# Altium footprint library ICs and SemiConductors.PcbLib: 61 footprints (part 1 of 4)
Each footprint in its own frame and in the unit in brackets; x right, y up, seen from the top. Pads: shape width x height; smd on the part's side, far side on the other; paste and mask are expansions set on the pad; w line width, h text height; cw(c..) or ccw(c..) is an arc to the next point about the centre after c.
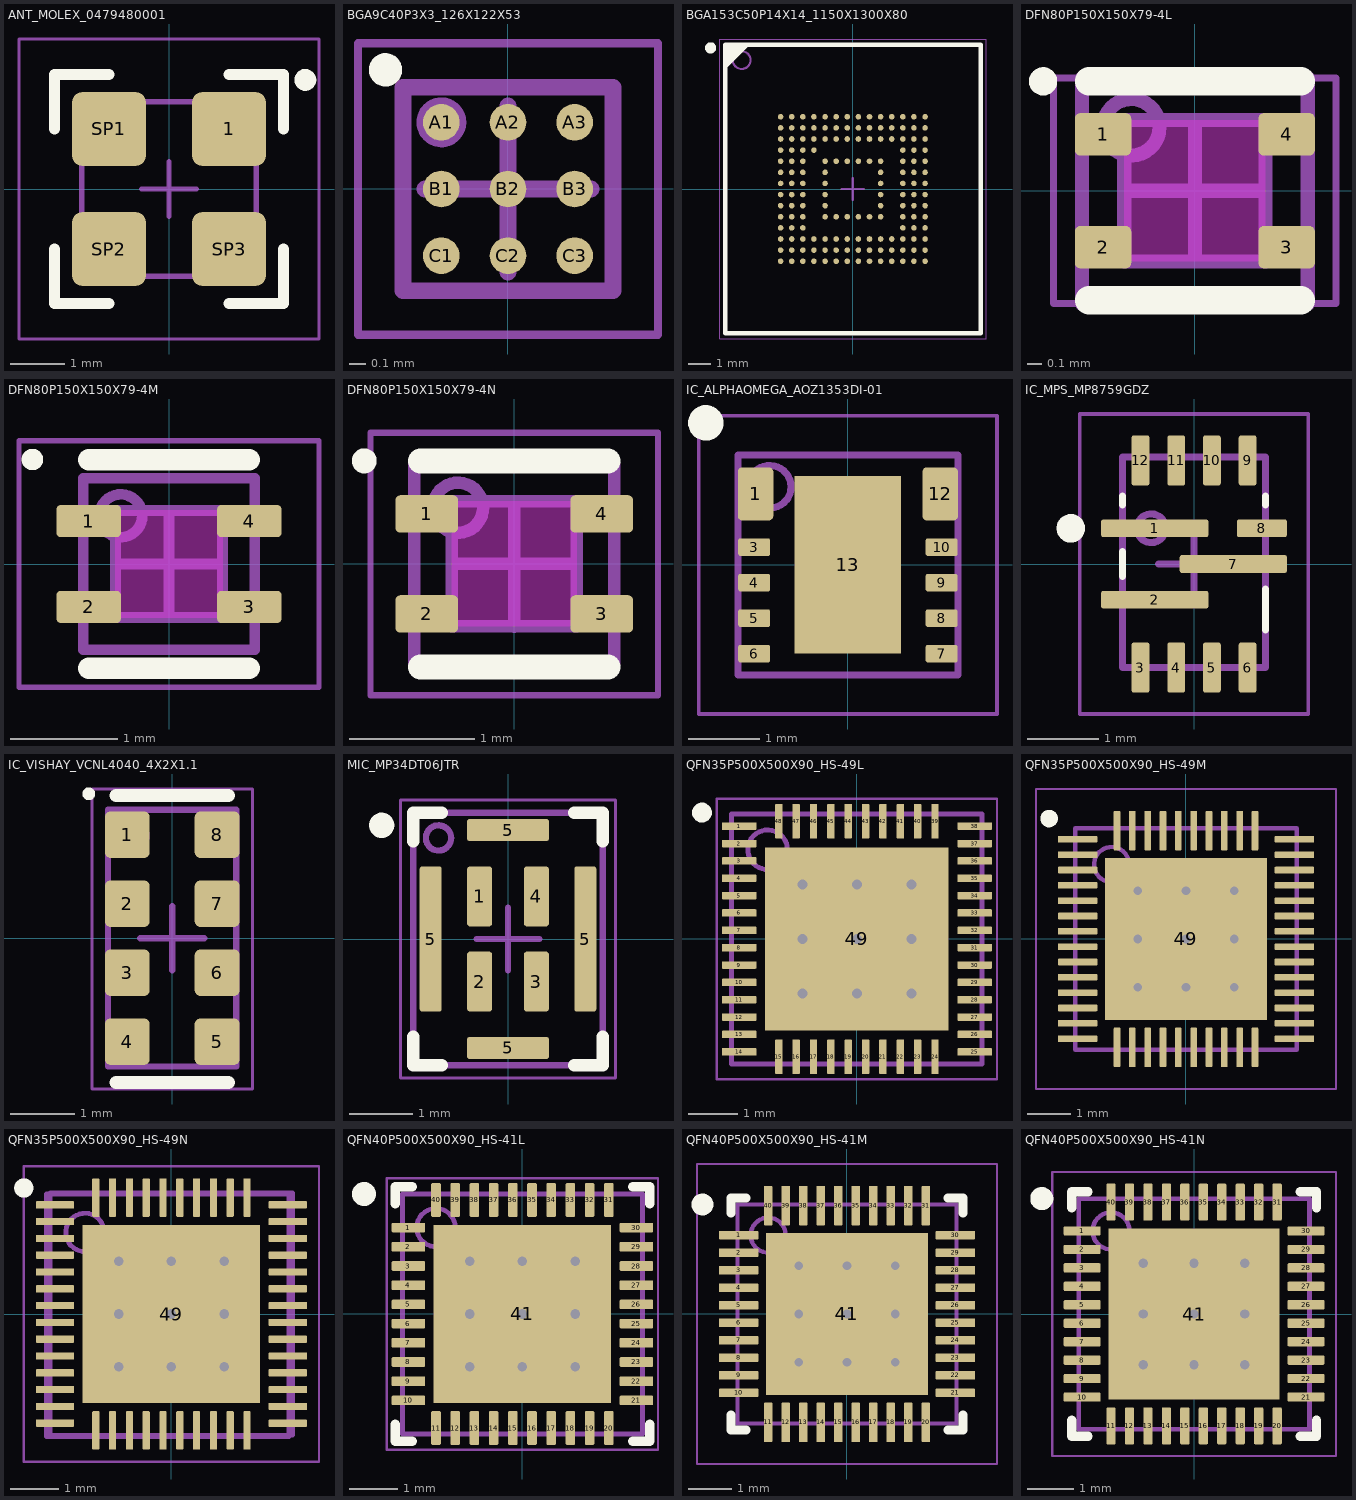
[diagram p0: the footprints below, top view; thin cyan lines are the x and y axes]

## ANT_MOLEX_0479480001 [mm] "Antenna Molex 0479480001"
height 4
pads (4):
  rrect25% 1.35x1.35 smd paste+0 mask+0.05: 1(1.1,1.1) SP1(-1.1,1.1) SP2(-1.1,-1.1) SP3(1.1,-1.1)
Top Overlay:
  circle w0.2: c2.5,2 r0.1
  lines w0.2: -2.1,-1.1 -2.1,-2.1 -1.1,-2.1 ; -2.1,1.1 -2.1,2.1 -1.1,2.1 ; 1.1,-2.1 2.1,-2.1 2.1,-1.1 ; 1.1,2.1 2.1,2.1 2.1,1.1
Top Component Outline:
  lines w0.1: -1.6,-1.6 1.6,-1.6 1.6,1.6 -1.6,1.6 -1.6,-1.6
Top Courtyard:
  lines w0.05: -2.75,-2.75 -2.75,2.75 2.75,2.75 2.75,-2.75 -2.75,-2.75
Top Component Center:
  lines w0.1: -0.5,0 0.5,0 ; 0,-0.5 0,0.5
Top Designator:
  text ".Designator" at -4.04,-0.476 h2
Top Assembly:
  circle w0.1: c1,1 r0.3
  lines w0.1: -1.6,-1.6 1.6,-1.6 1.6,1.6 -1.6,1.6 -1.6,-1.6
  text ".Designator" at -4.04,-0.476 h2
3D body "MOLEX_0479480001.step": height 4, standoff 0, extent -1.57,-1.57 1.57,1.57

## BGA9C40P3X3_126X122X53 [mm] "BGA, 9-Leads, Body 1.26x1.22mmx0.53mm, Pitch 0.40mm"
height 0.53
pads (9):
  round 0.22 smd paste+0 mask+0.05: A1(-0.4,0.4) A2(0,0.4) A3(0.4,0.4) B1(-0.4,0) B2(0,0) B3(0.4,0) C1(-0.4,-0.4) C2(0,-0.4) C3(0.4,-0.4)
Top Overlay:
  circle w0.1: c-0.735,0.715 r0.05
Top Component Outline:
  lines w0.1: -0.63,-0.61 -0.63,0.61 0.63,0.61 0.63,-0.61 -0.63,-0.61
Top Courtyard:
  lines w0.05: -0.9,-0.875 -0.9,0.875 0.9,0.875 0.9,-0.875 -0.9,-0.875
Top Component Center:
  lines w0.1: -0.5,0 0.5,0 ; 0,-0.5 0,0.5
Top Designator:
  text ".Designator" at -4.04,-0.476 h2
Top Assembly:
  circle w0.1: c-0.4,0.4 r0.1
  lines w0.1: -0.63,-0.61 -0.63,0.61 0.63,0.61 0.63,-0.61 -0.63,-0.61
  text ".Designator" at -4.04,-0.476 h2
3D body "BGA9C40P3X3_126X122X53.step": height 0.53, standoff 0, extent -0.63,-0.61 0.63,0.61

## BGA153C50P14X14_1150X1300X80 [mm] "BGA, 153-Leads, Body 11.50x13.00mmx0.80mm, Pitch 0.50mm"
height 0.8
pads (153):
  round 0.25 smd paste+0 mask+0.05: A1(-3.25,3.25) A2(-2.75,3.25) A3(-2.25,3.25) A4(-1.75,3.25) A5(-1.25,3.25) A6(-0.75,3.25) A7(-0.25,3.25) A8(0.25,3.25) A9(0.75,3.25) A10(1.25,3.25) A11(1.75,3.25) A12(2.25,3.25) A13(2.75,3.25) A14(3.25,3.25) B1(-3.25,2.75) B2(-2.75,2.75) B3(-2.25,2.75) B4(-1.75,2.75) B5(-1.25,2.75) B6(-0.75,2.75) B7(-0.25,2.75) B8(0.25,2.75) B9(0.75,2.75) B10(1.25,2.75) B11(1.75,2.75) B12(2.25,2.75) B13(2.75,2.75) B14(3.25,2.75) C1(-3.25,2.25) C2(-2.75,2.25) C3(-2.25,2.25) C4(-1.75,2.25) C5(-1.25,2.25) C6(-0.75,2.25) C7(-0.25,2.25) C8(0.25,2.25) C9(0.75,2.25) C10(1.25,2.25) C11(1.75,2.25) C12(2.25,2.25) C13(2.75,2.25) C14(3.25,2.25) D1(-3.25,1.75) D2(-2.75,1.75) D3(-2.25,1.75) D4(-1.75,1.75) D12(2.25,1.75) D13(2.75,1.75) D14(3.25,1.75) E1(-3.25,1.25) E2(-2.75,1.25) E3(-2.25,1.25) E5(-1.25,1.25) E6(-0.75,1.25) E7(-0.25,1.25) E8(0.25,1.25) E9(0.75,1.25) E10(1.25,1.25) E12(2.25,1.25) E13(2.75,1.25) E14(3.25,1.25) F1(-3.25,0.75) F2(-2.75,0.75) F3(-2.25,0.75) F5(-1.25,0.75) F10(1.25,0.75) F12(2.25,0.75) F13(2.75,0.75) F14(3.25,0.75) G1(-3.25,0.25) G2(-2.75,0.25) G3(-2.25,0.25) G5(-1.25,0.25) G10(1.25,0.25) G12(2.25,0.25) G13(2.75,0.25) G14(3.25,0.25) H1(-3.25,-0.25) H2(-2.75,-0.25) H3(-2.25,-0.25) H5(-1.25,-0.25) H10(1.25,-0.25) H12(2.25,-0.25) H13(2.75,-0.25) H14(3.25,-0.25) J1(-3.25,-0.75) J2(-2.75,-0.75) J3(-2.25,-0.75) J5(-1.25,-0.75) J10(1.25,-0.75) J12(2.25,-0.75) J13(2.75,-0.75) J14(3.25,-0.75) K1(-3.25,-1.25) K2(-2.75,-1.25) K3(-2.25,-1.25) K5(-1.25,-1.25) K6(-0.75,-1.25) K7(-0.25,-1.25) K8(0.25,-1.25) K9(0.75,-1.25) K10(1.25,-1.25) K12(2.25,-1.25) K13(2.75,-1.25) K14(3.25,-1.25) L1(-3.25,-1.75) L2(-2.75,-1.75) L3(-2.25,-1.75) L12(2.25,-1.75) L13(2.75,-1.75) L14(3.25,-1.75) M1(-3.25,-2.25) M2(-2.75,-2.25) M3(-2.25,-2.25) M4(-1.75,-2.25) M5(-1.25,-2.25) M6(-0.75,-2.25) M7(-0.25,-2.25) M8(0.25,-2.25) M9(0.75,-2.25) M10(1.25,-2.25) M11(1.75,-2.25) M12(2.25,-2.25) M13(2.75,-2.25) M14(3.25,-2.25) N1(-3.25,-2.75) N2(-2.75,-2.75) N3(-2.25,-2.75) N4(-1.75,-2.75) N5(-1.25,-2.75) N6(-0.75,-2.75) N7(-0.25,-2.75) N8(0.25,-2.75) N9(0.75,-2.75) N10(1.25,-2.75) N11(1.75,-2.75) N12(2.25,-2.75) N13(2.75,-2.75) N14(3.25,-2.75) P1(-3.25,-3.25) P2(-2.75,-3.25) P3(-2.25,-3.25) P4(-1.75,-3.25) P5(-1.25,-3.25) P6(-0.75,-3.25) P7(-0.25,-3.25) P8(0.25,-3.25) P9(0.75,-3.25) P10(1.25,-3.25) P11(1.75,-3.25) P12(2.25,-3.25) P13(2.75,-3.25) P14(3.25,-3.25)
Top Overlay:
  circle w0.25: c-6.4,6.35 r0.125
  region: -4.75,6.5 -5.75,5.5 -5.75,6.5
  lines w0.2: -5.75,5.5 -4.75,6.5 ; -5.75,-6.5 -5.75,6.5 5.75,6.5 5.75,-6.5 -5.75,-6.5
Top Component Outline:
  lines w0.1: -5.75,-6.5 -5.75,6.5 5.75,6.5 5.75,-6.5 -5.75,-6.5
Top Courtyard:
  lines w0.05: -6,-6.75 -6,6.75 6,6.75 6,-6.75 -6,-6.75
Top Component Center:
  lines w0.1: -0.5,0 0.5,0 ; 0,-0.5 0,0.5
Top Designator:
  text ".Designator" at -4.04,-0.476 h2
Top Assembly:
  circle w0.1: c-5,5.8 r0.4
  lines w0.1: -5.75,-6.5 -5.75,6.5 5.75,6.5 5.75,-6.5 -5.75,-6.5
3D body "BGA153C50P14X14_1150X1300X80.step": height 0.8, standoff 0, extent -5.75,-6.5 5.75,6.5

## DFN80P150X150X79-4L [mm] "DFN, 4-Leads, Body 1.50x1.50mm, Pitch 0.80mm, IPC High Density"
height 0.79
pads (4):
  rrect25% 0.4x0.3 smd paste+0 mask+0.05: 1(-0.65,0.4) 2(-0.65,-0.4) 3(0.65,-0.4) 4(0.65,0.4)
Top Overlay:
  circle w0.1: c-1.075,0.775 r0.05
  lines w0.2: -0.75,-0.775 0.75,-0.775 ; -0.75,0.775 0.75,0.775
Keep-Out Layer:
  region: -0.5,0.5 0.5,0.5 0.5,-0.5 -0.5,-0.5
Top Component Outline:
  lines w0.1: -0.5,-0.5 0.5,-0.5 0.5,0.5 -0.5,0.5 -0.5,-0.5
Top Courtyard:
  lines w0.05: -1,-0.8 1,-0.8 1,0.8 -1,0.8 -1,-0.8
Top Component Center:
  lines w0.1: -0.5,0 0.5,0 ; 0,-0.5 0,0.5
Top Assembly:
  circle w0.1: c-0.45,0.45 r0.2
  lines w0.1: -0.8,-0.8 0.8,-0.8 0.8,0.8 -0.8,0.8 -0.8,-0.8
3D body "SENSIRION_SHT41-AD1B-R3.step": height 0.55, standoff 0.01, extent -0.751,-0.751 0.751,0.751

## DFN80P150X150X79-4M [mm] "DFN, 4-Leads, Body 1.50x1.50mm, Pitch 0.80mm, IPC Low Density"
height 0.79
pads (4):
  rrect25% 0.6x0.3 smd paste+0 mask+0.05: 1(-0.75,0.4) 2(-0.75,-0.4) 3(0.75,-0.4) 4(0.75,0.4)
Top Overlay:
  circle w0.1: c-1.275,0.975 r0.05
  lines w0.2: -0.75,-0.975 0.75,-0.975 ; -0.75,0.975 0.75,0.975
Keep-Out Layer:
  region: -0.5,0.5 0.5,0.5 0.5,-0.5 -0.5,-0.5
Top Component Outline:
  lines w0.1: -0.5,-0.5 -0.5,0.5 0.5,0.5 0.5,-0.5 -0.5,-0.5
Top Courtyard:
  lines w0.05: -1.4,-1.15 1.4,-1.15 1.4,1.15 -1.4,1.15 -1.4,-1.15
Top Component Center:
  lines w0.1: -0.5,0 0.5,0 ; 0,-0.5 0,0.5
Top Assembly:
  circle w0.1: c-0.45,0.45 r0.2
  lines w0.1: -0.8,-0.8 -0.8,0.8 0.8,0.8 0.8,-0.8 -0.8,-0.8
3D body "SENSIRION_SHT41-AD1B-R3.step": height 0.55, standoff 0.01, extent -0.751,-0.751 0.751,0.751

## DFN80P150X150X79-4N [mm] "DFN, 4-Leads, Body 1.50x1.50mm, Pitch 0.80mm, IPC Medium Density"
height 0.79
pads (4):
  rrect25% 0.5x0.3 smd paste+0 mask+0.05: 1(-0.7,0.4) 2(-0.7,-0.4) 3(0.7,-0.4) 4(0.7,0.4)
Top Overlay:
  circle w0.1: c-1.2,0.825 r0.05
  lines w0.2: -0.75,-0.825 0.75,-0.825 ; -0.75,0.825 0.75,0.825
Keep-Out Layer:
  region: -0.5,0.5 0.5,0.5 0.5,-0.5 -0.5,-0.5
Top Component Outline:
  lines w0.1: -0.5,-0.5 -0.5,0.5 0.5,0.5 0.5,-0.5 -0.5,-0.5
Top Courtyard:
  lines w0.05: -1.15,-1.05 -1.15,1.05 1.15,1.05 1.15,-1.05 -1.15,-1.05
Top Component Center:
  lines w0.1: -0.5,0 0.5,0 ; 0,-0.5 0,0.5
Top Assembly:
  circle w0.1: c-0.45,0.45 r0.2
  lines w0.1: -0.8,-0.8 -0.8,0.8 0.8,0.8 0.8,-0.8 -0.8,-0.8
3D body "SENSIRION_SHT41-AD1B-R3.step": height 0.55, standoff 0.01, extent -0.751,-0.751 0.751,0.751

## IC_ALPHAOMEGA_AOZ1353DI-01 [mm] "Power Switch/Driver 1:1 N-Channel 3.5A 12-DFN (3x3)"
height 1
pads (11):
  rrect25% 0.5x0.75 smd paste+0 mask+0.05: 1(-1.3,1) 12(1.3,1)
  rrect25% 0.45x0.25 smd paste+0 mask+0.05: 3(-1.32,0.25) 4(-1.32,-0.25) 5(-1.32,-0.75) 6(-1.32,-1.25) 7(1.32,-1.25) 8(1.32,-0.75) 9(1.32,-0.25) 10(1.32,0.25)
  rect 1.5x2.5 smd paste+0 mask+0.05: 13(0,0)
Top Overlay:
  circle w0.25: c-2,2 r0.125
Top Component Outline:
  lines w0.1: -1.55,-1.55 -1.55,1.55 1.55,1.55 1.55,-1.55 -1.55,-1.55
Top Courtyard:
  lines w0.05: -2.1,-2.1 -2.1,2.1 2.1,2.1 2.1,-2.1 -2.1,-2.1
Top Component Center:
  lines w0.1: -0.5,0 0.5,0 ; 0,-0.5 0,0.5
Top Designator:
  text ".Designator" at -4.04,-0.476 h2
Top Assembly:
  circle w0.1: c-1.1,1.1 r0.3
  lines w0.1: -1.55,-1.55 -1.55,1.55 1.55,1.55 1.55,-1.55 -1.55,-1.55
  text ".Designator" at -4.04,-0.476 h2
3D body "ALPHAOMEGA_AOZ1353DI-01.step": height 1.1, standoff 0, extent -1.5,-1.5 1.5,1.5

## IC_MPS_MP8759GDZ [mm] "Buck Switching Regulator IC Positive Adjustable 0.6V 1 Output 8A 12-PowerVFQFN"
height 1.1
pads (12):
  rrect25% 1.5x0.25 smd paste+0 mask+0.05: 1(-0.55,0.5) 2(-0.55,-0.5) 7(0.55,0)
  rrect25% 0.25x0.7 smd paste+0 mask+0.05: 3(-0.75,-1.45) 4(-0.25,-1.45) 5(0.25,-1.45) 6(0.75,-1.45) 9(0.75,1.45) 10(0.25,1.45) 11(-0.25,1.45) 12(-0.75,1.45)
  rrect25% 0.7x0.25 smd paste+0 mask+0.05: 8(0.95,0.5)
Top Overlay:
  circle w0.2: c-1.725,0.5 r0.1
  lines w0.1: -1,-0.175 -1,0.175 ; -1,0.825 -1,0.95 ; 1,-0.925 1,-0.35 ; 1,0.825 1,0.95
Top Component Outline:
  lines w0.1: -1,-1.45 -1,1.5 1,1.5 1,-1.45 -1,-1.45
Top Courtyard:
  lines w0.05: -1.6,-2.1 -1.6,2.1 1.6,2.1 1.6,-2.1 -1.6,-2.1
Top Component Center:
  lines w0.1: -0.5,0 0.5,0 ; 0,-0.5 0,0.5
Top Designator:
  text ".Designator" at -4.04,-0.476 h2
Top Assembly:
  circle w0.1: c-0.6,0.5 r0.2
  lines w0.1: -1,-1.45 -1,1.5 1,1.5 1,-1.45 -1,-1.45
  text ".Designator" at -4.04,-0.476 h2
3D body "MPS_MP8759GD-Z.step": height 1.1, standoff 0, extent -1,-1.45 1,1.5

## IC_VISHAY_VCNL4040_4X2X1.1 [mm] "Light/Proximity Sensor Vishay VCNL4040"
height 1.163
pads (8):
  rrect25% 0.7x0.725 smd paste+0 mask+0.05: 1(-0.7,1.613) 2(-0.7,0.537) 3(-0.7,-0.537) 4(-0.7,-1.613) 5(0.7,-1.613) 6(0.7,-0.537) 7(0.7,0.537) 8(0.7,1.613)
Top Overlay:
  circle w0.1: c-1.3,2.25 r0.05
  lines w0.2: -0.875,-2.25 0.875,-2.25 ; -0.875,2.225 0.875,2.225
Top Component Outline:
  lines w0.1: -1,-2 1,-2 1,2 -1,2 -1,-2
Top Courtyard:
  lines w0.05: -1.25,-2.35 1.25,-2.35 1.25,2.325 -1.25,2.325 -1.25,-2.35
Top Component Center:
  lines w0.1: -0.5,0 0.5,0 ; 0,-0.5 0,0.5
Top Designator:
  text ".Designator" at -4.04,-0.476 h2
Top Assembly:
  circle w0.1: c-0.6,1.6 r0.2
  lines w0.1: -1,-2 1,-2 1,2 -1,2 -1,-2
  text ".Designator" at -4.04,-0.476 h2
3D body "VISHAY_84352VCNL4040.step": height 1.15, standoff 0, extent -1,-2 1,2

## MIC_MP34DT06JTR [mm] "MEMS audio sensor omnidirectional digital microphone"
height 1
pads (8):
  rrect25% 0.4x0.95 smd paste+0 mask+0.05: 1(-0.45,0.675) 2(-0.45,-0.675) 3(0.45,-0.675) 4(0.45,0.675)
  rrect25% 0.35x2.3 smd paste+0 mask+0.05: 5(-1.225,0) 5(1.225,0)
  rrect25% 1.3x0.35 smd paste+0 mask+0.05: 5(0,-1.725) 5(0,1.725)
Top Overlay:
  circle w0.2: c-2,1.8 r0.1
  lines w0.2: -1.5,-1.55 -1.5,-2 -1.05,-2 ; -1.5,1.55 -1.5,2 -1.05,2 ; 1.05,-2 1.5,-2 1.5,-1.55 ; 1.05,2 1.5,2 1.5,1.55
Top Component Outline:
  lines w0.1: -1.5,-2 1.5,-2 1.5,2 -1.5,2 -1.5,-2
Top Courtyard:
  lines w0.05: -1.7,-2.2 -1.7,2.2 1.7,2.2 1.7,-2.2 -1.7,-2.2
Top Component Center:
  lines w0.1: -0.5,0 0.5,0 ; 0,-0.5 0,0.5
Top Designator:
  text ".Designator" at -4.04,-0.476 h2
Top Assembly:
  circle w0.1: c-1.1,1.6 r0.2
  lines w0.1: -1.5,-2 1.5,-2 1.5,2 -1.5,2 -1.5,-2
  text ".Designator" at -4.04,-0.476 h2
3D body "MIC_MP34DT06J.step": height 1, standoff -0.01, extent -1.5,-2 1.5,2

## QFN35P500X500X90_HS-49L [mm] "QFN, 48-Leads, Body 5.00x5.00mm, Pitch 0.35mm, Thermal Pad 3.70x3.70mm, IPC High Density"
height 0.9
pads (49):
  rrect25% 0.7x0.15 smd paste+0 mask+0.05: 1(-2.375,2.275) 2(-2.375,1.925) 3(-2.375,1.575) 4(-2.375,1.225) 5(-2.375,0.875) 6(-2.375,0.525) 7(-2.375,0.175) 8(-2.375,-0.175) 9(-2.375,-0.525) 10(-2.375,-0.875) 11(-2.375,-1.225) 12(-2.375,-1.575) 13(-2.375,-1.925) 14(-2.375,-2.275) 25(2.375,-2.275) 26(2.375,-1.925) 27(2.375,-1.575) 28(2.375,-1.225) 29(2.375,-0.875) 30(2.375,-0.525) 31(2.375,-0.175) 32(2.375,0.175) 33(2.375,0.525) 34(2.375,0.875) 35(2.375,1.225) 36(2.375,1.575) 37(2.375,1.925) 38(2.375,2.275)
  rrect25% 0.15x0.7 smd paste+0 mask+0.05: 15(-1.575,-2.375) 16(-1.225,-2.375) 17(-0.875,-2.375) 18(-0.525,-2.375) 19(-0.175,-2.375) 20(0.175,-2.375) 21(0.525,-2.375) 22(0.875,-2.375) 23(1.225,-2.375) 24(1.575,-2.375) 39(1.575,2.375) 40(1.225,2.375) 41(0.875,2.375) 42(0.525,2.375) 43(0.175,2.375) 44(-0.175,2.375) 45(-0.525,2.375) 46(-0.875,2.375) 47(-1.225,2.375) 48(-1.575,2.375)
  rect 3.7x3.7 smd paste+0 mask+0.05: 49(0,0)
via 1.1,-1.1 diameter 0.5 hole 0.2
via 0,-1.1 diameter 0.5 hole 0.2
via -1.1,-1.1 diameter 0.5 hole 0.2
via 1.1,0 diameter 0.5 hole 0.2
via 0,0 diameter 0.5 hole 0.2
via -1.1,0 diameter 0.5 hole 0.2
via 1.1,1.1 diameter 0.5 hole 0.2
via 0,1.1 diameter 0.5 hole 0.2
via -1.1,1.1 diameter 0.5 hole 0.2
Top Overlay:
  circle w0.2: c-3.125,2.55 r0.1
Top Component Outline:
  lines w0.1: -2.528,-2.525 -2.528,2.525 2.522,2.525 2.522,-2.525 -2.528,-2.525
Top Courtyard:
  lines w0.05: -2.825,-2.825 2.825,-2.825 2.825,2.825 -2.825,2.825 -2.825,-2.825
Top Component Center:
  lines w0.1: -0.5,0 0.5,0 ; 0,-0.5 0,0.5
Top Designator:
  text ".Designator" at -4.04,-0.476 h2
Top Assembly:
  circle w0.1: c-1.8,1.8 r0.4
  lines w0.1: -2.525,-2.525 2.525,-2.525 2.525,2.525 -2.525,2.525 -2.525,-2.525
  text ".Designator" at -4.04,-0.476 h2
3D body "QFN35P500X500X90_HS-49N.step": height 0.9, standoff 0, extent -2.526,-2.526 2.526,2.526

## QFN35P500X500X90_HS-49M [mm] "QFN, 48-Leads, Body 5.00x5.00mm, Pitch 0.35mm, Thermal Pad 3.70x3.70mm, IPC Low Density"
height 0.9
pads (49):
  rrect25% 0.9x0.15 smd paste+0 mask+0.05: 1(-2.475,2.275) 2(-2.475,1.925) 3(-2.475,1.575) 4(-2.475,1.225) 5(-2.475,0.875) 6(-2.475,0.525) 7(-2.475,0.175) 8(-2.475,-0.175) 9(-2.475,-0.525) 10(-2.475,-0.875) 11(-2.475,-1.225) 12(-2.475,-1.575) 13(-2.475,-1.925) 14(-2.475,-2.275) 25(2.475,-2.275) 26(2.475,-1.925) 27(2.475,-1.575) 28(2.475,-1.225) 29(2.475,-0.875) 30(2.475,-0.525) 31(2.475,-0.175) 32(2.475,0.175) 33(2.475,0.525) 34(2.475,0.875) 35(2.475,1.225) 36(2.475,1.575) 37(2.475,1.925) 38(2.475,2.275)
  rrect25% 0.15x0.9 smd paste+0 mask+0.05: 15(-1.575,-2.475) 16(-1.225,-2.475) 17(-0.875,-2.475) 18(-0.525,-2.475) 19(-0.175,-2.475) 20(0.175,-2.475) 21(0.525,-2.475) 22(0.875,-2.475) 23(1.225,-2.475) 24(1.575,-2.475) 39(1.575,2.475) 40(1.225,2.475) 41(0.875,2.475) 42(0.525,2.475) 43(0.175,2.475) 44(-0.175,2.475) 45(-0.525,2.475) 46(-0.875,2.475) 47(-1.225,2.475) 48(-1.575,2.475)
  rect 3.7x3.7 smd paste+0 mask+0.05: 49(0,0)
via -1.1,1.1 diameter 0.5 hole 0.2
via 0,1.1 diameter 0.5 hole 0.2
via 1.1,1.1 diameter 0.5 hole 0.2
via -1.1,0 diameter 0.5 hole 0.2
via 0,0 diameter 0.5 hole 0.2
via 1.1,0 diameter 0.5 hole 0.2
via -1.1,-1.1 diameter 0.5 hole 0.2
via 0,-1.1 diameter 0.5 hole 0.2
via 1.1,-1.1 diameter 0.5 hole 0.2
Top Overlay:
  circle w0.2: c-3.125,2.75 r0.1
Top Component Outline:
  lines w0.1: -2.525,-2.525 2.525,-2.525 2.525,2.525 -2.525,2.525 -2.525,-2.525
Top Courtyard:
  lines w0.05: -3.425,-3.425 -3.425,3.425 3.425,3.425 3.425,-3.425 -3.425,-3.425
Top Component Center:
  lines w0.1: -0.5,0 0.5,0 ; 0,-0.5 0,0.5
Top Designator:
  text ".Designator" at -4.04,-0.476 h2
Top Assembly:
  circle w0.1: c-1.7,1.7 r0.4
  lines w0.1: -2.525,-2.525 -2.525,2.525 2.525,2.525 2.525,-2.525 -2.525,-2.525
  text ".Designator" at -4.04,-0.476 h2
3D body "QFN35P500X500X90_HS-49N.step": height 0.9, standoff 0, extent -2.526,-2.526 2.526,2.526

## QFN35P500X500X90_HS-49N [mm] "QFN, 48-Leads, Body 5.00x5.00mm, Pitch 0.35mm, Thermal Pad 3.70x3.70mm, IPC Medium Density"
height 0.9
pads (49):
  rrect25% 0.8x0.15 smd paste+0 mask+0.05: 1(-2.425,2.275) 2(-2.425,1.925) 3(-2.425,1.575) 4(-2.425,1.225) 5(-2.425,0.875) 6(-2.425,0.525) 7(-2.425,0.175) 8(-2.425,-0.175) 9(-2.425,-0.525) 10(-2.425,-0.875) 11(-2.425,-1.225) 12(-2.425,-1.575) 13(-2.425,-1.925) 14(-2.425,-2.275) 25(2.425,-2.275) 26(2.425,-1.925) 27(2.425,-1.575) 28(2.425,-1.225) 29(2.425,-0.875) 30(2.425,-0.525) 31(2.425,-0.175) 32(2.425,0.175) 33(2.425,0.525) 34(2.425,0.875) 35(2.425,1.225) 36(2.425,1.575) 37(2.425,1.925) 38(2.425,2.275)
  rrect25% 0.15x0.8 smd paste+0 mask+0.05: 15(-1.575,-2.425) 16(-1.225,-2.425) 17(-0.875,-2.425) 18(-0.525,-2.425) 19(-0.175,-2.425) 20(0.175,-2.425) 21(0.525,-2.425) 22(0.875,-2.425) 23(1.225,-2.425) 24(1.575,-2.425) 39(1.575,2.425) 40(1.225,2.425) 41(0.875,2.425) 42(0.525,2.425) 43(0.175,2.425) 44(-0.175,2.425) 45(-0.525,2.425) 46(-0.875,2.425) 47(-1.225,2.425) 48(-1.575,2.425)
  rect 3.7x3.7 smd paste+0 mask+0.05: 49(0,0)
via -1.1,1.1 diameter 0.5 hole 0.2
via 0,1.1 diameter 0.5 hole 0.2
via 1.1,1.1 diameter 0.5 hole 0.2
via -1.1,0 diameter 0.5 hole 0.2
via 0,0 diameter 0.5 hole 0.2
via 1.1,0 diameter 0.5 hole 0.2
via -1.1,-1.1 diameter 0.5 hole 0.2
via 0,-1.1 diameter 0.5 hole 0.2
via 1.1,-1.1 diameter 0.5 hole 0.2
Top Overlay:
  circle w0.2: c-3.075,2.625 r0.1
Top Component Outline:
  lines w0.1: -2.525,-2.525 -2.525,2.525 2.525,2.525 2.525,-2.525 -2.525,-2.525
Top Courtyard:
  lines w0.05: -3.075,-3.075 -3.075,3.075 3.075,3.075 3.075,-3.075 -3.075,-3.075
Top Component Center:
  lines w0.1: -0.5,0 0.5,0 ; 0,-0.5 0,0.5
Top Designator:
  text ".Designator" at -4.04,-0.476 h2
Top Assembly:
  circle w0.1: c-1.8,1.7 r0.4
  lines w0.1: -2.6,-2.55 2.45,-2.55 2.45,2.5 -2.6,2.5 -2.6,-2.55
  text ".Designator" at -4.04,-0.476 h2
3D body "QFN35P500X500X90_HS-49N.step": height 0.9, standoff 0, extent -2.526,-2.526 2.526,2.526

## QFN40P500X500X90_HS-41L [mm] "QFN, 40-Leads, Body 5.00x5.00mm, Pitch 0.40mm, Thermal Pad 3.70x3.70mm, IPC High Density"
height 0.9
pads (41):
  rrect25% 0.7x0.2 smd paste+0 mask+0.05: 1(-2.375,1.8) 2(-2.375,1.4) 3(-2.375,1) 4(-2.375,0.6) 5(-2.375,0.2) 6(-2.375,-0.2) 7(-2.375,-0.6) 8(-2.375,-1) 9(-2.375,-1.4) 10(-2.375,-1.8) 21(2.375,-1.8) 22(2.375,-1.4) 23(2.375,-1) 24(2.375,-0.6) 25(2.375,-0.2) 26(2.375,0.2) 27(2.375,0.6) 28(2.375,1) 29(2.375,1.4) 30(2.375,1.8)
  rrect25% 0.2x0.7 smd paste+0 mask+0.05: 11(-1.8,-2.375) 12(-1.4,-2.375) 13(-1,-2.375) 14(-0.6,-2.375) 15(-0.2,-2.375) 16(0.2,-2.375) 17(0.6,-2.375) 18(1,-2.375) 19(1.4,-2.375) 20(1.8,-2.375) 31(1.8,2.375) 32(1.4,2.375) 33(1,2.375) 34(0.6,2.375) 35(0.2,2.375) 36(-0.2,2.375) 37(-0.6,2.375) 38(-1,2.375) 39(-1.4,2.375) 40(-1.8,2.375)
  rect 3.7x3.7 smd paste+0 mask+0.05: 41(0,0)
via -1.1,1.1 diameter 0.5 hole 0.2
via 0,1.1 diameter 0.5 hole 0.2
via 1.1,1.1 diameter 0.5 hole 0.2
via -1.1,0 diameter 0.5 hole 0.2
via 0,0 diameter 0.5 hole 0.2
via 1.1,0 diameter 0.5 hole 0.2
via -1.1,-1.1 diameter 0.5 hole 0.2
via 0,-1.1 diameter 0.5 hole 0.2
via 1.1,-1.1 diameter 0.5 hole 0.2
Top Overlay:
  circle w0.25: c-3.3,2.5 r0.125
  lines w0.2: -2.65,-2.3 -2.65,-2.65 -2.3,-2.65 ; -2.65,2.3 -2.65,2.65 -2.3,2.65 ; 2.3,-2.65 2.65,-2.65 2.65,-2.3 ; 2.3,2.65 2.65,2.65 2.65,2.3
Top Component Outline:
  lines w0.1: -2.5,-2.5 -2.5,2.5 2.5,2.5 2.5,-2.5 -2.5,-2.5
Top Courtyard:
  lines w0.05: -2.825,-2.825 -2.825,2.825 2.825,2.825 2.825,-2.825 -2.825,-2.825
Top Component Center:
  lines w0.1: -0.5,0 0.5,0 ; 0,-0.5 0,0.5
Top Designator:
  text ".Designator" at -4.04,-0.476 h2
Top Assembly:
  circle w0.1: c-1.8,1.8 r0.4
  lines w0.1: -2.5,-2.5 -2.5,2.5 2.5,2.5 2.5,-2.5 -2.5,-2.5
  text ".Designator" at -4.04,-0.476 h2
3D body "QFN40P500X500X90_HS-41N.step": height 0.9, standoff 0, extent -2.501,-2.501 2.501,2.501

## QFN40P500X500X90_HS-41M [mm] "QFN, 40-Leads, Body 5.00x5.00mm, Pitch 0.40mm, Thermal Pad 3.70x3.70mm, IPC Low Density"
height 0.9
pads (41):
  rrect25% 0.9x0.2 smd paste+0 mask+0.05: 1(-2.475,1.8) 2(-2.475,1.4) 3(-2.475,1) 4(-2.475,0.6) 5(-2.475,0.2) 6(-2.475,-0.2) 7(-2.475,-0.6) 8(-2.475,-1) 9(-2.475,-1.4) 10(-2.475,-1.8) 21(2.475,-1.8) 22(2.475,-1.4) 23(2.475,-1) 24(2.475,-0.6) 25(2.475,-0.2) 26(2.475,0.2) 27(2.475,0.6) 28(2.475,1) 29(2.475,1.4) 30(2.475,1.8)
  rrect25% 0.2x0.9 smd paste+0 mask+0.05: 11(-1.8,-2.475) 12(-1.4,-2.475) 13(-1,-2.475) 14(-0.6,-2.475) 15(-0.2,-2.475) 16(0.2,-2.475) 17(0.6,-2.475) 18(1,-2.475) 19(1.4,-2.475) 20(1.8,-2.475) 31(1.8,2.475) 32(1.4,2.475) 33(1,2.475) 34(0.6,2.475) 35(0.2,2.475) 36(-0.2,2.475) 37(-0.6,2.475) 38(-1,2.475) 39(-1.4,2.475) 40(-1.8,2.475)
  rect 3.7x3.7 smd paste+0 mask+0.05: 41(0,0)
via 1.1,-1.1 diameter 0.5 hole 0.2
via 0,-1.1 diameter 0.5 hole 0.2
via -1.1,-1.1 diameter 0.5 hole 0.2
via 1.1,0 diameter 0.5 hole 0.2
via 0,0 diameter 0.5 hole 0.2
via -1.1,0 diameter 0.5 hole 0.2
via 1.1,1.1 diameter 0.5 hole 0.2
via 0,1.1 diameter 0.5 hole 0.2
via -1.1,1.1 diameter 0.5 hole 0.2
Top Overlay:
  circle w0.25: c-3.3,2.5 r0.125
  lines w0.2: -2.65,-2.3 -2.65,-2.65 -2.3,-2.65 ; -2.65,2.3 -2.65,2.65 -2.3,2.65 ; 2.3,-2.65 2.65,-2.65 2.65,-2.3 ; 2.3,2.65 2.65,2.65 2.65,2.3
Top Component Outline:
  lines w0.1: -2.5,-2.5 -2.5,2.5 2.5,2.5 2.5,-2.5 -2.5,-2.5
Top Courtyard:
  lines w0.05: -3.425,-3.425 3.425,-3.425 3.425,3.425 -3.425,3.425 -3.425,-3.425
Top Component Center:
  lines w0.1: -0.5,0 0.5,0 ; 0,-0.5 0,0.5
Top Designator:
  text ".Designator" at -4.04,-0.476 h2
Top Assembly:
  circle w0.1: c-1.8,1.8 r0.4
  lines w0.1: -2.5,-2.5 2.5,-2.5 2.5,2.5 -2.5,2.5 -2.5,-2.5
  text ".Designator" at -4.04,-0.476 h2
3D body "QFN40P500X500X90_HS-41N.step": height 0.9, standoff 0, extent -2.501,-2.501 2.501,2.501

## QFN40P500X500X90_HS-41N [mm] "QFN, 40-Leads, Body 5.00x5.00mm, Pitch 0.40mm, Thermal Pad 3.70x3.70mm, IPC Medium Density"
height 0.9
pads (41):
  rrect25% 0.8x0.2 smd paste+0 mask+0.05: 1(-2.425,1.8) 2(-2.425,1.4) 3(-2.425,1) 4(-2.425,0.6) 5(-2.425,0.2) 6(-2.425,-0.2) 7(-2.425,-0.6) 8(-2.425,-1) 9(-2.425,-1.4) 10(-2.425,-1.8) 21(2.425,-1.8) 22(2.425,-1.4) 23(2.425,-1) 24(2.425,-0.6) 25(2.425,-0.2) 26(2.425,0.2) 27(2.425,0.6) 28(2.425,1) 29(2.425,1.4) 30(2.425,1.8)
  rrect25% 0.2x0.8 smd paste+0 mask+0.05: 11(-1.8,-2.425) 12(-1.4,-2.425) 13(-1,-2.425) 14(-0.6,-2.425) 15(-0.2,-2.425) 16(0.2,-2.425) 17(0.6,-2.425) 18(1,-2.425) 19(1.4,-2.425) 20(1.8,-2.425) 31(1.8,2.425) 32(1.4,2.425) 33(1,2.425) 34(0.6,2.425) 35(0.2,2.425) 36(-0.2,2.425) 37(-0.6,2.425) 38(-1,2.425) 39(-1.4,2.425) 40(-1.8,2.425)
  rect 3.7x3.7 smd paste+0 mask+0.05: 41(0,0)
via -1.1,1.1 diameter 0.5 hole 0.2
via 0,1.1 diameter 0.5 hole 0.2
via 1.1,1.1 diameter 0.5 hole 0.2
via -1.1,0 diameter 0.5 hole 0.2
via 0,0 diameter 0.5 hole 0.2
via 1.1,0 diameter 0.5 hole 0.2
via -1.1,-1.1 diameter 0.5 hole 0.2
via 0,-1.1 diameter 0.5 hole 0.2
via 1.1,-1.1 diameter 0.5 hole 0.2
Top Overlay:
  circle w0.25: c-3.3,2.5 r0.125
  lines w0.2: -2.65,-2.3 -2.65,-2.65 -2.3,-2.65 ; -2.65,2.3 -2.65,2.65 -2.3,2.65 ; 2.3,-2.65 2.65,-2.65 2.65,-2.3 ; 2.3,2.65 2.65,2.65 2.65,2.3
Top Component Outline:
  lines w0.1: -2.5,-2.5 -2.5,2.5 2.5,2.5 2.5,-2.5 -2.5,-2.5
Top Courtyard:
  lines w0.05: -3.075,-3.075 -3.075,3.075 3.075,3.075 3.075,-3.075 -3.075,-3.075
Top Component Center:
  lines w0.1: -0.5,0 0.5,0 ; 0,-0.5 0,0.5
Top Designator:
  text ".Designator" at -4.04,-0.476 h2
Top Assembly:
  circle w0.1: c-1.8,1.8 r0.4
  lines w0.1: -2.5,-2.5 -2.5,2.5 2.5,2.5 2.5,-2.5 -2.5,-2.5
  text ".Designator" at -4.04,-0.476 h2
3D body "QFN40P500X500X90_HS-41N.step": height 0.9, standoff 0, extent -2.501,-2.501 2.501,2.501